# Altium schematic symbol library 662010113322.SchLib: 1 symbol
Pins are listed as number, name and electrical type; pins without a type are passive.

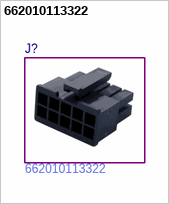
[diagram p0: symbol 662010113322]

## 662010113322
designator J?  Manufactuer Part Number: 662010113322  (hidden comment: *)